# EAGLE library part TRAFO-PULSE-UI30_16,5 (library 1A-meinLib)
Flachtransformator, UI30/16.5, 10VA, 28mm hoch, (nicht mehr lieferbar) Hersteller: Pulse, Vertrieb: era, Reichelt UI39/8
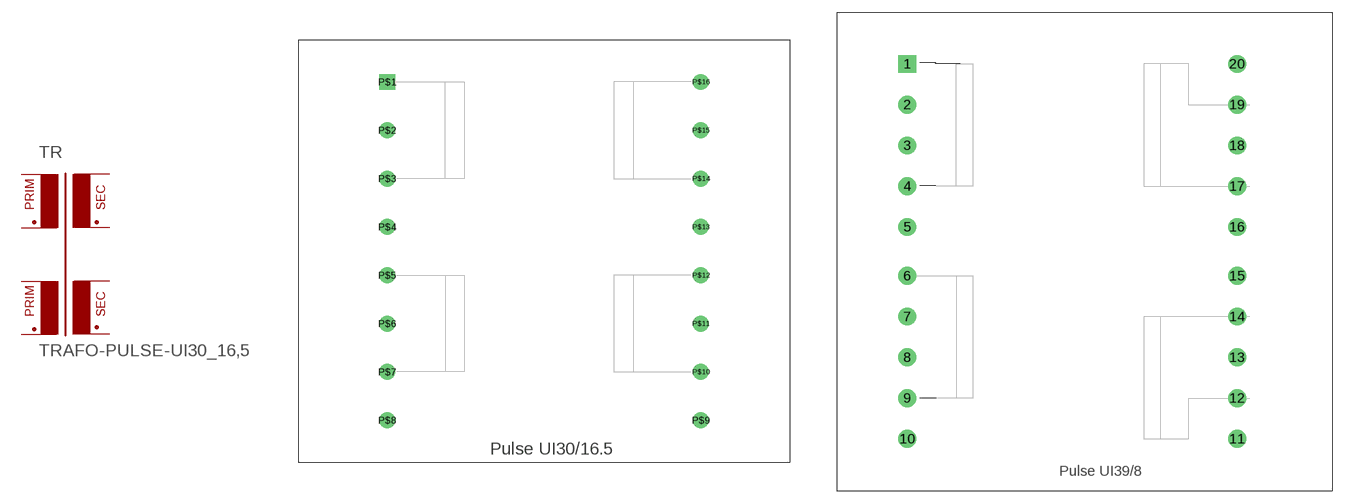
[diagram p108: symbol with the pads of TRAFO-ERA-UI30_16,5; footprints TRAFO-ERA-UI30_16,5, TRAFO-ERA-UI39_8]

Designator prefix TR

## TRAFO-PULSE-UI30_16,5  [TRAFO-ERA-UI30_16,5]
P$1  P1A  pas
P$3  P1B  pas
P$5  P2A  pas
P$7  P2B  pas
P$10  S1A  pas
P$12  S1B  pas
P$14  S2A  pas
P$16  S2B  pas

## TRAFO-PULSE-UI30_16,5C  [TRAFO-ERA-UI39_8]
1  P1A  pas
4  P1B  pas
6  P2A  pas
9  P2B  pas
12  S1A  pas
14  S1B  pas
17  S2A  pas
19  S2B  pas

## TRAFO-PULSE-UI30_16,5D  [TRAFO-HAHN-BV-UI-392_0094]
P1A  P1A  pas
P1B  P1B  pas
P2A  P2A  pas
P2B  P2B  pas
S1A  S1A  pas
S1B  S1B  pas
S2A  S2A  pas
S2B  S2B  pas

## Footprint TRAFO-ERA-UI30_16,5 (pad centres in mm)
drill 1.1 square: P$1 -17.5,17.5
drill 1.1 round: P$2 -17.5,12.5; P$3 -17.5,7.5; P$4 -17.5,2.5; P$5 -17.5,-2.5; P$6 -17.5,-7.5; P$7 -17.5,-12.5; P$8 -17.5,-17.5; P$9 14.96,-17.5; P$10 14.96,-12.5; P$11 14.96,-7.5; P$12 14.96,-2.5; P$13 14.96,2.5; P$14 14.96,7.5; P$15 14.96,12.5; P$16 14.96,17.5

## Footprint TRAFO-ERA-UI39_8 (pad centres in mm)
drill 1.1 pad 2.184 square: 1 -25.5,22.96
drill 1.1 pad 2.184 round: 2 -25.5,17.96; 3 -25.5,12.96; 4 -25.5,7.96; 5 -25.5,2.96; 6 -25.5,-3.04; 7 -25.5,-8.04; 8 -25.5,-13.04; 9 -25.5,-18.04; 10 -25.5,-23.04; 11 14.96,-23.04; 12 14.96,-18.04; 13 14.96,-13.04; 14 14.96,-8.04; 15 14.96,-3.04; 16 14.96,2.96; 17 14.96,7.96; 18 14.96,12.96; 19 14.96,17.96; 20 14.96,22.96

## Footprint TRAFO-HAHN-BV-UI-392_0094 (pad centres in mm)
Spezialtransformator, 36V/2x18V, Fa. Hahn
drill 1.1 pad 2.184 square: P1A -25.5,19.92
drill 1.1 pad 2.184 round: P1B -25.5,9.92; P2A -25.5,-16.08; P2B -25.5,-26.08; S1A 19.96,-21.08; S1B 19.96,-11.08; S2A 19.96,4.92; S2B 19.96,14.92